# EAGLE library part SA36-* (library king-displays)
9.14mm (0.36INCH) SINGLE DIGIT NUMERIC DISPLAY Description Features z 0.36 inch digit height. z Low current operation z Excellent character appearance. z Easy mounting on P.C. boards or sockets. z Categorized for luminous intensity. z Mechanically rugged. z Standard : gray face, white segment. z RoHS compliant. How to order Family color SA36 11EWA = Red 11SRWA = ultra Red 11YWA = Yellow 11GWA = Green Ref: Datasheet <http://www.kingbrightusa.com/images/catalog/SPEC/SA03-11EWA.pdf>
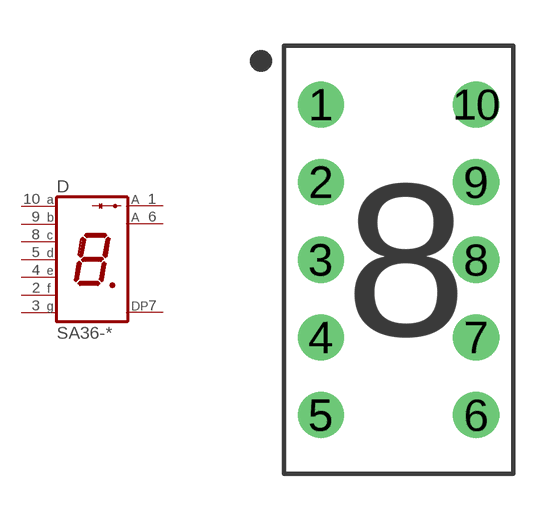
[diagram p1: symbol with the pads of SX36P750X1400-10S; footprint SX36P750X1400-10S]

Designator prefix D

## SA36-@  [SX36P750X1400-10S]
1  A  pas
2  F  pas
3  G  pas
4  E  pas
5  D  pas
6  A  pas
7  DP  pas
8  C  pas
9  B  pas
10  A  pas

## Footprint SX36P750X1400-10S (pad centres in mm)
Single led display 7.5mm L x 14.00mm W x 8.5mm H ----------------------------------------------
drill 1: 1 -2.54,5.08; 2 -2.54,2.54; 3 -2.54,0; 4 -2.54,-2.54; 5 -2.54,-5.08; 6 2.54,-5.08; 7 2.54,-2.54; 8 2.54,0; 9 2.54,2.54; 10 2.54,5.08